# Altium integrated library TI Power Management Linear Regulator Single Channel LDO (0-350mA).IntLib: 1648 symbols (part 22 of 66)
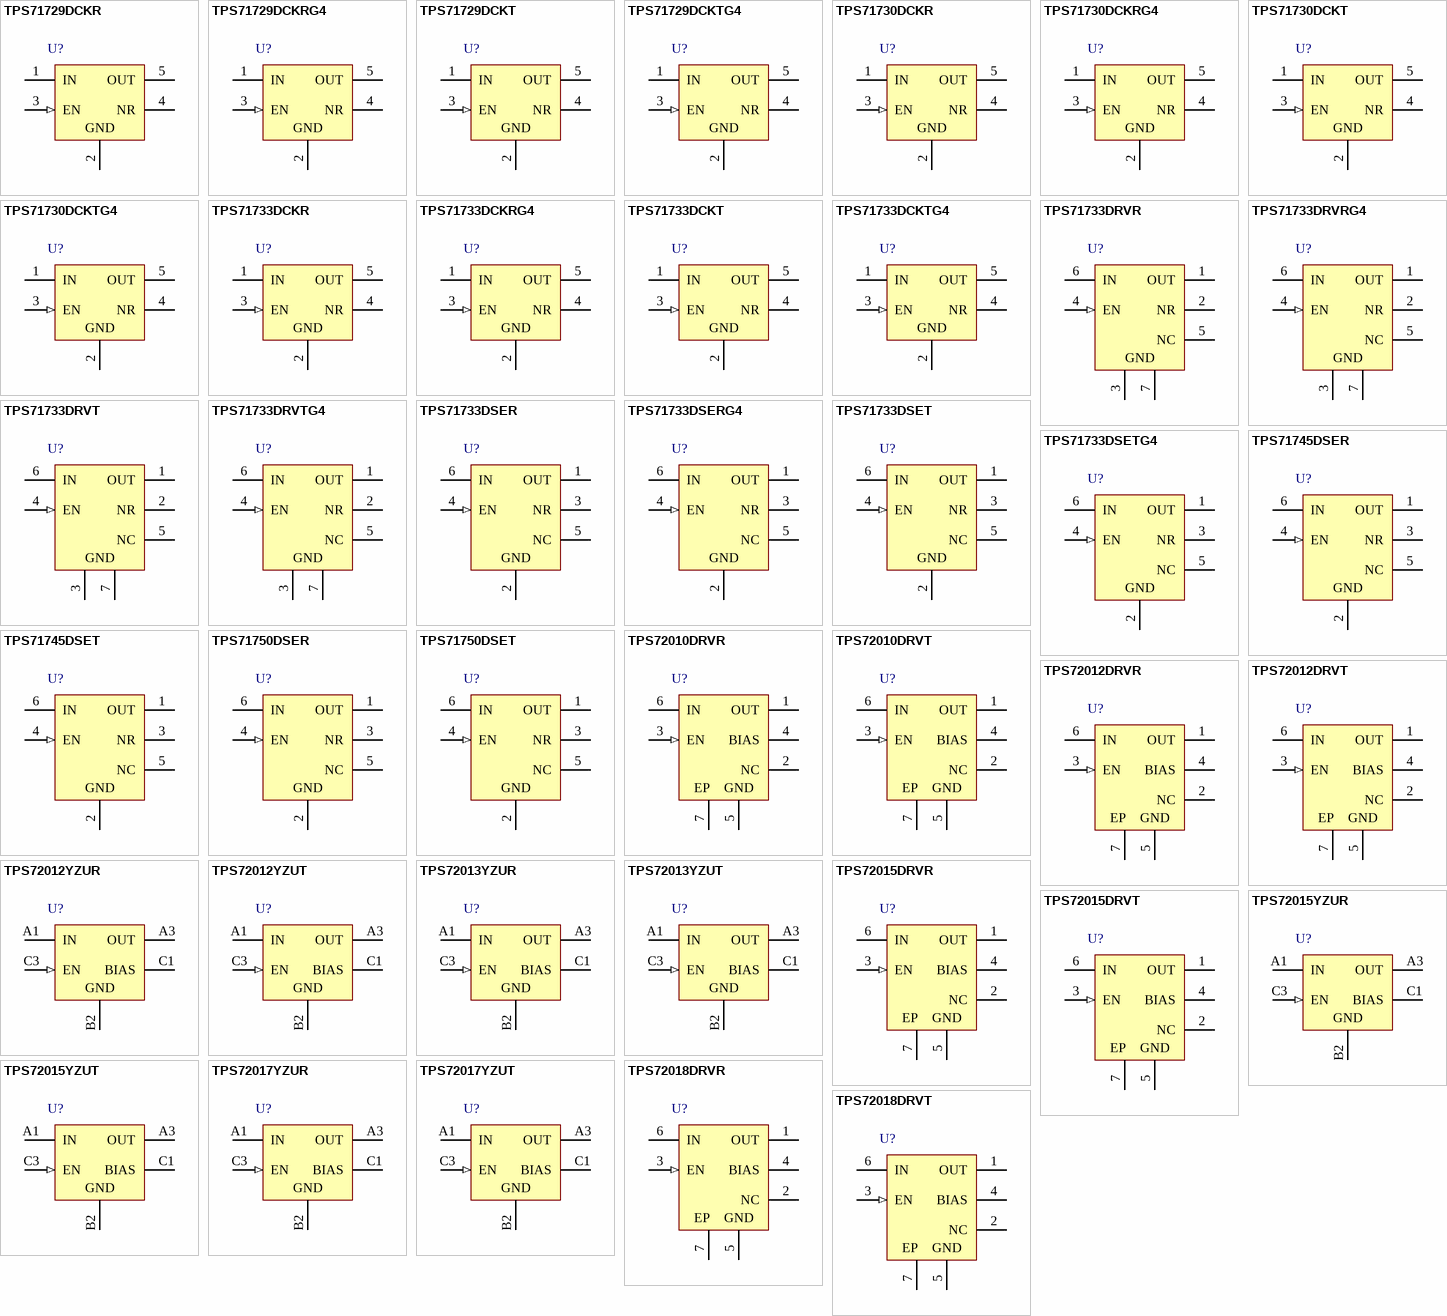
[diagram p63: symbols TPS71729DCKR to TPS72018DRVT]

## TPS72015DRVR
designator U?
Single Output LDO, 350 mA, Fixed 1.5 V Output, 1.1 to 4.5 V Input, with Bias Pin, 6-pin SON (DRV), -40 to 125 degC, Green (RoHS & no Sb/Br); Manufacturer: Texas Instruments; PartNumber: TPS72015DRVR; Accuracy(%): 2; Fixed Output Options(V): 1.5; Iout(Max)(A): 0.3; Iq(Typ)(mA): 0.03; Rating: Catalog; SubFamily: Single Channel LDO; Vdo(Typ)(mV): 110; Vin(Max)(V): 4.5; Vin(Min)(V): 1.1; DatasheetVersion: SBVS100D; PackageVersion: 4206925/E; PackageReference: DRV6-1600X1000TP; PackageDescription: 6-Pin Plastic Small Outline No-Lead, Body 2 x 2 mm, Pitch 0.65 mm; Supplier 1: Digi-Key; Supplier Part Number 1: TPS72015DRVR-ND; Supplier 2: Mouser; Supplier Part Number 2: 595-TPS72015DRVR; Eco-Plan: Green (RoHS & no Sb/Br); Vout Adj(Max)(V): 1.5; Vout Adj(Min)(V): 1.5; Mounting Technology: Surface Mount; ComponentLink1Description: Manufacturer URL; ComponentLink1URL: http://www.ti.com/; ComponentLink2Description: Datasheet; ComponentLink2URL: http://www.ti.com/general/docs/lit/getliterature.tsp?genericPartNumber=TPS72015&fileType=pdf; ComponentLink3Description: Package Specification; ComponentLink3URL: http://www.ti.com/litv/pdf/mpds216d
footprint TI-DRV6-1600X1000TP_V (SON, 6-Leads, Body 2x2mm, Pitch 0.65mm, Thermal Pad 1X1.6mm)
pins: 1 OUT (power) "Output pin. A 2.2uF ceramic capacitor is connected from this pin to ground, for stability and to provide load transients.", 2 NC "No connection.", 3 EN (in) "Enable pin. A logic high signal on this pin turns the device on and regulates the voltage from IN to OUT. A logic low on this pin turns off the device.", 4 BIAS (power) "Bias supply pin. It is recommended that this input be bypassed with a ceramic capacitor to ground for better transient performance.", 5 GND (power) "Ground pin.", 6 IN (power) "Input pin. This pin can be a maximum of 4.5V; VIN must not exceed VBIAS. Bypass this input with a ceramic capacitor to ground.", 7 EP (power) "It is recommended that the SON package thermal pad be connected to ground."

## TPS72015DRVT
designator U?
Single Output LDO, 350 mA, Fixed 1.5 V Output, 1.1 to 4.5 V Input, with Bias Pin, 6-pin SON (DRV), -40 to 125 degC, Green (RoHS & no Sb/Br); Manufacturer: Texas Instruments; PartNumber: TPS72015DRVT; Accuracy(%): 2; Fixed Output Options(V): 1.5; Iout(Max)(A): 0.3; Iq(Typ)(mA): 0.03; Rating: Catalog; SubFamily: Single Channel LDO; Vdo(Typ)(mV): 110; Vin(Max)(V): 4.5; Vin(Min)(V): 1.1; DatasheetVersion: SBVS100D; PackageVersion: 4206925/E; PackageReference: DRV6-1600X1000TP; PackageDescription: 6-Pin Plastic Small Outline No-Lead, Body 2 x 2 mm, Pitch 0.65 mm; Supplier 1: Digi-Key; Supplier Part Number 1: 296-25808-2-ND; Supplier 2: Digi-Key; Supplier Part Number 2: 296-25808-1-ND; Supplier 3: Digi-Key; Supplier Part Number 3: 296-25808-6-ND; Supplier 4: Newark; Supplier Part Number 4: 69R0452; Supplier 5: Mouser; Supplier Part Number 5: 595-TPS72015DRVT; Eco-Plan: Green (RoHS & no Sb/Br); Vout Adj(Max)(V): 1.5; Vout Adj(Min)(V): 1.5; Mounting Technology: Surface Mount; ComponentLink1Description: Manufacturer URL; ComponentLink1URL: http://www.ti.com/; ComponentLink2Description: Datasheet; ComponentLink2URL: http://www.ti.com/general/docs/lit/getliterature.tsp?genericPartNumber=TPS72015&fileType=pdf; ComponentLink3Description: Package Specification; ComponentLink3URL: http://www.ti.com/litv/pdf/mpds216d
footprint TI-DRV6-1600X1000TP_V (SON, 6-Leads, Body 2x2mm, Pitch 0.65mm, Thermal Pad 1X1.6mm)
pins: 1 OUT (power) "Output pin. A 2.2uF ceramic capacitor is connected from this pin to ground, for stability and to provide load transients.", 2 NC "No connection.", 3 EN (in) "Enable pin. A logic high signal on this pin turns the device on and regulates the voltage from IN to OUT. A logic low on this pin turns off the device.", 4 BIAS (power) "Bias supply pin. It is recommended that this input be bypassed with a ceramic capacitor to ground for better transient performance.", 5 GND (power) "Ground pin.", 6 IN (power) "Input pin. This pin can be a maximum of 4.5V; VIN must not exceed VBIAS. Bypass this input with a ceramic capacitor to ground.", 7 EP (power) "It is recommended that the SON package thermal pad be connected to ground."

## TPS72015YZUR
designator U?
Single Output LDO, 350 mA, Fixed 1.5 V Output, 1.1 to 4.5 V Input, with Bias Pin, 5-pin DSBGA (YZU), -40 to 125 degC, Green (RoHS & no Sb/Br); Manufacturer: Texas Instruments; PartNumber: TPS72015YZUR; Accuracy(%): 2; Fixed Output Options(V): 1.5; Iout(Max)(A): 0.3; Iq(Typ)(mA): 0.03; Rating: Catalog; SubFamily: Single Channel LDO; Vdo(Typ)(mV): 110; Vin(Max)(V): 4.5; Vin(Min)(V): 1.1; DatasheetVersion: SBVS100D; PackageVersion: 4205678/D; PackageReference: YZU5; PackageDescription: 5-Pin Silicon Grid Array, Body 1.332 x 0.964 mm, Pitch 0.25 mm; Supplier 1: Digi-Key; Supplier Part Number 1: TPS72015YZUR-ND; Supplier 2: Newark; Supplier Part Number 2: 03P5254; Supplier 3: Mouser; Supplier Part Number 3: 595-TPS72015YZUR; Eco-Plan: Green (RoHS & no Sb/Br); Vout Adj(Max)(V): 1.5; Vout Adj(Min)(V): 1.5; Mounting Technology: Surface Mount; ComponentLink1Description: Manufacturer URL; ComponentLink1URL: http://www.ti.com/; ComponentLink2Description: Datasheet; ComponentLink2URL: http://www.ti.com/general/docs/lit/getliterature.tsp?genericPartNumber=TPS72015&fileType=pdf; ComponentLink3Description: Package Specification; ComponentLink3URL: http://www.ti.com/litv/pdf/mpds018i
footprint TI-YZU5-1332X964DE (BGA, 5-Balls, Body 1.332x0.964mm, Pitch 0.25mm)
pins: A1 IN (power) "Input pin. This pin can be a maximum of 4.5V; VINmust not exceed VBIAS. Bypass this input with a ceramic capacitor to ground.", A3 OUT (power) "Output pin. A 2.2µF ceramic capacitor is connected from this pin to ground, for stability and to provide load transients.", B2 GND (power) "Ground pin.", C1 BIAS (power) "Bias supply pin. It is recommended that this input be bypassed with a ceramic capacitor to ground for better transient performance.", C3 EN (in) "Enable pin. A logic high signal on this pin turns the device on and regulates the voltage from IN to OUT. A logic low on this pin turns off the device."

## TPS72015YZUT
designator U?
Single Output LDO, 350 mA, Fixed 1.5 V Output, 1.1 to 4.5 V Input, with Bias Pin, 5-pin DSBGA (YZU), -40 to 125 degC, Green (RoHS & no Sb/Br); Manufacturer: Texas Instruments; PartNumber: TPS72015YZUT; Accuracy(%): 2; Fixed Output Options(V): 1.5; Iout(Max)(A): 0.3; Iq(Typ)(mA): 0.03; Rating: Catalog; SubFamily: Single Channel LDO; Vdo(Typ)(mV): 110; Vin(Max)(V): 4.5; Vin(Min)(V): 1.1; DatasheetVersion: SBVS100D; PackageVersion: 4205678/D; PackageReference: YZU5; PackageDescription: 5-Pin Silicon Grid Array, Body 1.332 x 0.964 mm, Pitch 0.25 mm; Supplier 1: Digi-Key; Supplier Part Number 1: 296-23575-2-ND; Supplier 2: Digi-Key; Supplier Part Number 2: 296-23575-1-ND; Supplier 3: Digi-Key; Supplier Part Number 3: 296-23575-6-ND; Supplier 4: Newark; Supplier Part Number 4: 14N8525; Supplier 5: Mouser; Supplier Part Number 5: 595-TPS72015YZUT; Eco-Plan: Green (RoHS & no Sb/Br); Vout Adj(Max)(V): 1.5; Vout Adj(Min)(V): 1.5; Mounting Technology: Surface Mount; ComponentLink1Description: Manufacturer URL; ComponentLink1URL: http://www.ti.com/; ComponentLink2Description: Datasheet; ComponentLink2URL: http://www.ti.com/general/docs/lit/getliterature.tsp?genericPartNumber=TPS72015&fileType=pdf; ComponentLink3Description: Package Specification; ComponentLink3URL: http://www.ti.com/litv/pdf/mpds018i
footprint TI-YZU5-1332X964DE (BGA, 5-Balls, Body 1.332x0.964mm, Pitch 0.25mm)
pins: A1 IN (power) "Input pin. This pin can be a maximum of 4.5V; VINmust not exceed VBIAS. Bypass this input with a ceramic capacitor to ground.", A3 OUT (power) "Output pin. A 2.2µF ceramic capacitor is connected from this pin to ground, for stability and to provide load transients.", B2 GND (power) "Ground pin.", C1 BIAS (power) "Bias supply pin. It is recommended that this input be bypassed with a ceramic capacitor to ground for better transient performance.", C3 EN (in) "Enable pin. A logic high signal on this pin turns the device on and regulates the voltage from IN to OUT. A logic low on this pin turns off the device."

## TPS72017YZUR
designator U?
Single Output LDO, 300 mA, Fixed 1.7 V Output, 1.1 to 4.5 V Input, with Bias Pin, 5-pin DSBGA (YZU), -40 to 125 degC, Green (RoHS & no Sb/Br); Manufacturer: Texas Instruments; PartNumber: TPS72017YZUR; Accuracy(%): 2; Fixed Output Options(V): 1.7; Iout(Max)(A): 0.3; Iq(Typ)(mA): 0.03; Rating: Catalog; SubFamily: Single Channel LDO; Vdo(Typ)(mV): 110; Vin(Max)(V): 4.5; Vin(Min)(V): 1.1; DatasheetVersion: SBVS100D; PackageVersion: 4205678/D; PackageReference: YZU5; PackageDescription: 5-Pin Silicon Grid Array, Body 1.332 x 0.964 mm, Pitch 0.25 mm; Supplier 1: Digi-Key; Supplier Part Number 1: 296-23777-2-ND; Supplier 2: Digi-Key; Supplier Part Number 2: 296-23777-1-ND; Supplier 3: Digi-Key; Supplier Part Number 3: 296-23777-6-ND; Supplier 4: Mouser; Supplier Part Number 4: 595-TPS72017YZUR; Eco-Plan: Green (RoHS & no Sb/Br); Vout Adj(Max)(V): 1.7; Vout Adj(Min)(V): 1.7; Mounting Technology: Surface Mount; ComponentLink1Description: Manufacturer URL; ComponentLink1URL: http://www.ti.com/; ComponentLink2Description: Datasheet; ComponentLink2URL: http://www.ti.com/general/docs/lit/getliterature.tsp?genericPartNumber=TPS72017&fileType=pdf; ComponentLink3Description: Package Specification; ComponentLink3URL: http://www.ti.com/litv/pdf/mpds018i
footprint TI-YZU5-1332X964DE (BGA, 5-Balls, Body 1.332x0.964mm, Pitch 0.25mm)
pins: A1 IN (power) "Input pin. This pin can be a maximum of 4.5V; VINmust not exceed VBIAS. Bypass this input with a ceramic capacitor to ground.", A3 OUT (power) "Output pin. A 2.2µF ceramic capacitor is connected from this pin to ground, for stability and to provide load transients.", B2 GND (power) "Ground pin.", C1 BIAS (power) "Bias supply pin. It is recommended that this input be bypassed with a ceramic capacitor to ground for better transient performance.", C3 EN (in) "Enable pin. A logic high signal on this pin turns the device on and regulates the voltage from IN to OUT. A logic low on this pin turns off the device."

## TPS72017YZUT
designator U?
Single Output LDO, 300 mA, Fixed 1.7 V Output, 1.1 to 4.5 V Input, with Bias Pin, 5-pin DSBGA (YZU), -40 to 125 degC, Green (RoHS & no Sb/Br); Manufacturer: Texas Instruments; PartNumber: TPS72017YZUT; Accuracy(%): 2; Fixed Output Options(V): 1.7; Iout(Max)(A): 0.3; Iq(Typ)(mA): 0.03; Rating: Catalog; SubFamily: Single Channel LDO; Vdo(Typ)(mV): 110; Vin(Max)(V): 4.5; Vin(Min)(V): 1.1; DatasheetVersion: SBVS100D; PackageVersion: 4205678/D; PackageReference: YZU5; PackageDescription: 5-Pin Silicon Grid Array, Body 1.332 x 0.964 mm, Pitch 0.25 mm; Supplier 1: Digi-Key; Supplier Part Number 1: TPS72017YZUT-ND; Supplier 2: Mouser; Supplier Part Number 2: 595-TPS72017YZUT; Eco-Plan: Green (RoHS & no Sb/Br); Vout Adj(Max)(V): 1.7; Vout Adj(Min)(V): 1.7; Mounting Technology: Surface Mount; ComponentLink1Description: Manufacturer URL; ComponentLink1URL: http://www.ti.com/; ComponentLink2Description: Datasheet; ComponentLink2URL: http://www.ti.com/general/docs/lit/getliterature.tsp?genericPartNumber=TPS72017&fileType=pdf; ComponentLink3Description: Package Specification; ComponentLink3URL: http://www.ti.com/litv/pdf/mpds018i
footprint TI-YZU5-1332X964DE (BGA, 5-Balls, Body 1.332x0.964mm, Pitch 0.25mm)
pins: A1 IN (power) "Input pin. This pin can be a maximum of 4.5V; VINmust not exceed VBIAS. Bypass this input with a ceramic capacitor to ground.", A3 OUT (power) "Output pin. A 2.2µF ceramic capacitor is connected from this pin to ground, for stability and to provide load transients.", B2 GND (power) "Ground pin.", C1 BIAS (power) "Bias supply pin. It is recommended that this input be bypassed with a ceramic capacitor to ground for better transient performance.", C3 EN (in) "Enable pin. A logic high signal on this pin turns the device on and regulates the voltage from IN to OUT. A logic low on this pin turns off the device."

## TPS72018DRVR
designator U?
Single Output LDO, 300 mA, Fixed 1.8 V Output, 1.1 to 4.5 V Input, with Bias Pin, 6-pin SON (DRV), -40 to 125 degC, Green (RoHS & no Sb/Br); Manufacturer: Texas Instruments; PartNumber: TPS72018DRVR; Accuracy(%): 2; Fixed Output Options(V): 1.8; Iout(Max)(A): 0.3; Iq(Typ)(mA): 0.03; Rating: Catalog; SubFamily: Single Channel LDO; Vdo(Typ)(mV): 110; Vin(Max)(V): 4.5; Vin(Min)(V): 1.1; DatasheetVersion: SBVS100D; PackageVersion: 4206925/E; PackageReference: DRV6-1600X1000TP; PackageDescription: 6-Pin Plastic Small Outline No-Lead, Body 2 x 2 mm, Pitch 0.65 mm; Supplier 1: Digi-Key; Supplier Part Number 1: TPS72018DRVR-ND; Supplier 2: Mouser; Supplier Part Number 2: 595-TPS72018DRVR; Eco-Plan: Green (RoHS & no Sb/Br); Vout Adj(Max)(V): 1.8; Vout Adj(Min)(V): 1.8; Mounting Technology: Surface Mount; ComponentLink1Description: Manufacturer URL; ComponentLink1URL: http://www.ti.com/; ComponentLink2Description: Datasheet; ComponentLink2URL: http://www.ti.com/general/docs/lit/getliterature.tsp?genericPartNumber=TPS72018&fileType=pdf; ComponentLink3Description: Package Specification; ComponentLink3URL: http://www.ti.com/litv/pdf/mpds216d
footprint TI-DRV6-1600X1000TP_V (SON, 6-Leads, Body 2x2mm, Pitch 0.65mm, Thermal Pad 1X1.6mm)
pins: 1 OUT (power) "Output pin. A 2.2uF ceramic capacitor is connected from this pin to ground, for stability and to provide load transients.", 2 NC "No connection.", 3 EN (in) "Enable pin. A logic high signal on this pin turns the device on and regulates the voltage from IN to OUT. A logic low on this pin turns off the device.", 4 BIAS (power) "Bias supply pin. It is recommended that this input be bypassed with a ceramic capacitor to ground for better transient performance.", 5 GND (power) "Ground pin.", 6 IN (power) "Input pin. This pin can be a maximum of 4.5V; VIN must not exceed VBIAS. Bypass this input with a ceramic capacitor to ground.", 7 EP (power) "It is recommended that the SON package thermal pad be connected to ground."

## TPS72018DRVT
designator U?
Single Output LDO, 300 mA, Fixed 1.8 V Output, 1.1 to 4.5 V Input, with Bias Pin, 6-pin SON (DRV), -40 to 125 degC, Green (RoHS & no Sb/Br); Manufacturer: Texas Instruments; PartNumber: TPS72018DRVT; Accuracy(%): 2; Fixed Output Options(V): 1.8; Iout(Max)(A): 0.3; Iq(Typ)(mA): 0.03; Rating: Catalog; SubFamily: Single Channel LDO; Vdo(Typ)(mV): 110; Vin(Max)(V): 4.5; Vin(Min)(V): 1.1; DatasheetVersion: SBVS100D; PackageVersion: 4206925/E; PackageReference: DRV6-1600X1000TP; PackageDescription: 6-Pin Plastic Small Outline No-Lead, Body 2 x 2 mm, Pitch 0.65 mm; Supplier 1: Digi-Key; Supplier Part Number 1: 296-25809-2-ND; Supplier 2: Digi-Key; Supplier Part Number 2: 296-25809-1-ND; Supplier 3: Digi-Key; Supplier Part Number 3: 296-25809-6-ND; Supplier 4: Newark; Supplier Part Number 4: 69R0454; Supplier 5: Mouser; Supplier Part Number 5: 595-TPS72018DRVT; Eco-Plan: Green (RoHS & no Sb/Br); Vout Adj(Max)(V): 1.8; Vout Adj(Min)(V): 1.8; Mounting Technology: Surface Mount; ComponentLink1Description: Manufacturer URL; ComponentLink1URL: http://www.ti.com/; ComponentLink2Description: Datasheet; ComponentLink2URL: http://www.ti.com/general/docs/lit/getliterature.tsp?genericPartNumber=TPS72018&fileType=pdf; ComponentLink3Description: Package Specification; ComponentLink3URL: http://www.ti.com/litv/pdf/mpds216d
footprint TI-DRV6-1600X1000TP_V (SON, 6-Leads, Body 2x2mm, Pitch 0.65mm, Thermal Pad 1X1.6mm)
pins: 1 OUT (power) "Output pin. A 2.2uF ceramic capacitor is connected from this pin to ground, for stability and to provide load transients.", 2 NC "No connection.", 3 EN (in) "Enable pin. A logic high signal on this pin turns the device on and regulates the voltage from IN to OUT. A logic low on this pin turns off the device.", 4 BIAS (power) "Bias supply pin. It is recommended that this input be bypassed with a ceramic capacitor to ground for better transient performance.", 5 GND (power) "Ground pin.", 6 IN (power) "Input pin. This pin can be a maximum of 4.5V; VIN must not exceed VBIAS. Bypass this input with a ceramic capacitor to ground.", 7 EP (power) "It is recommended that the SON package thermal pad be connected to ground."

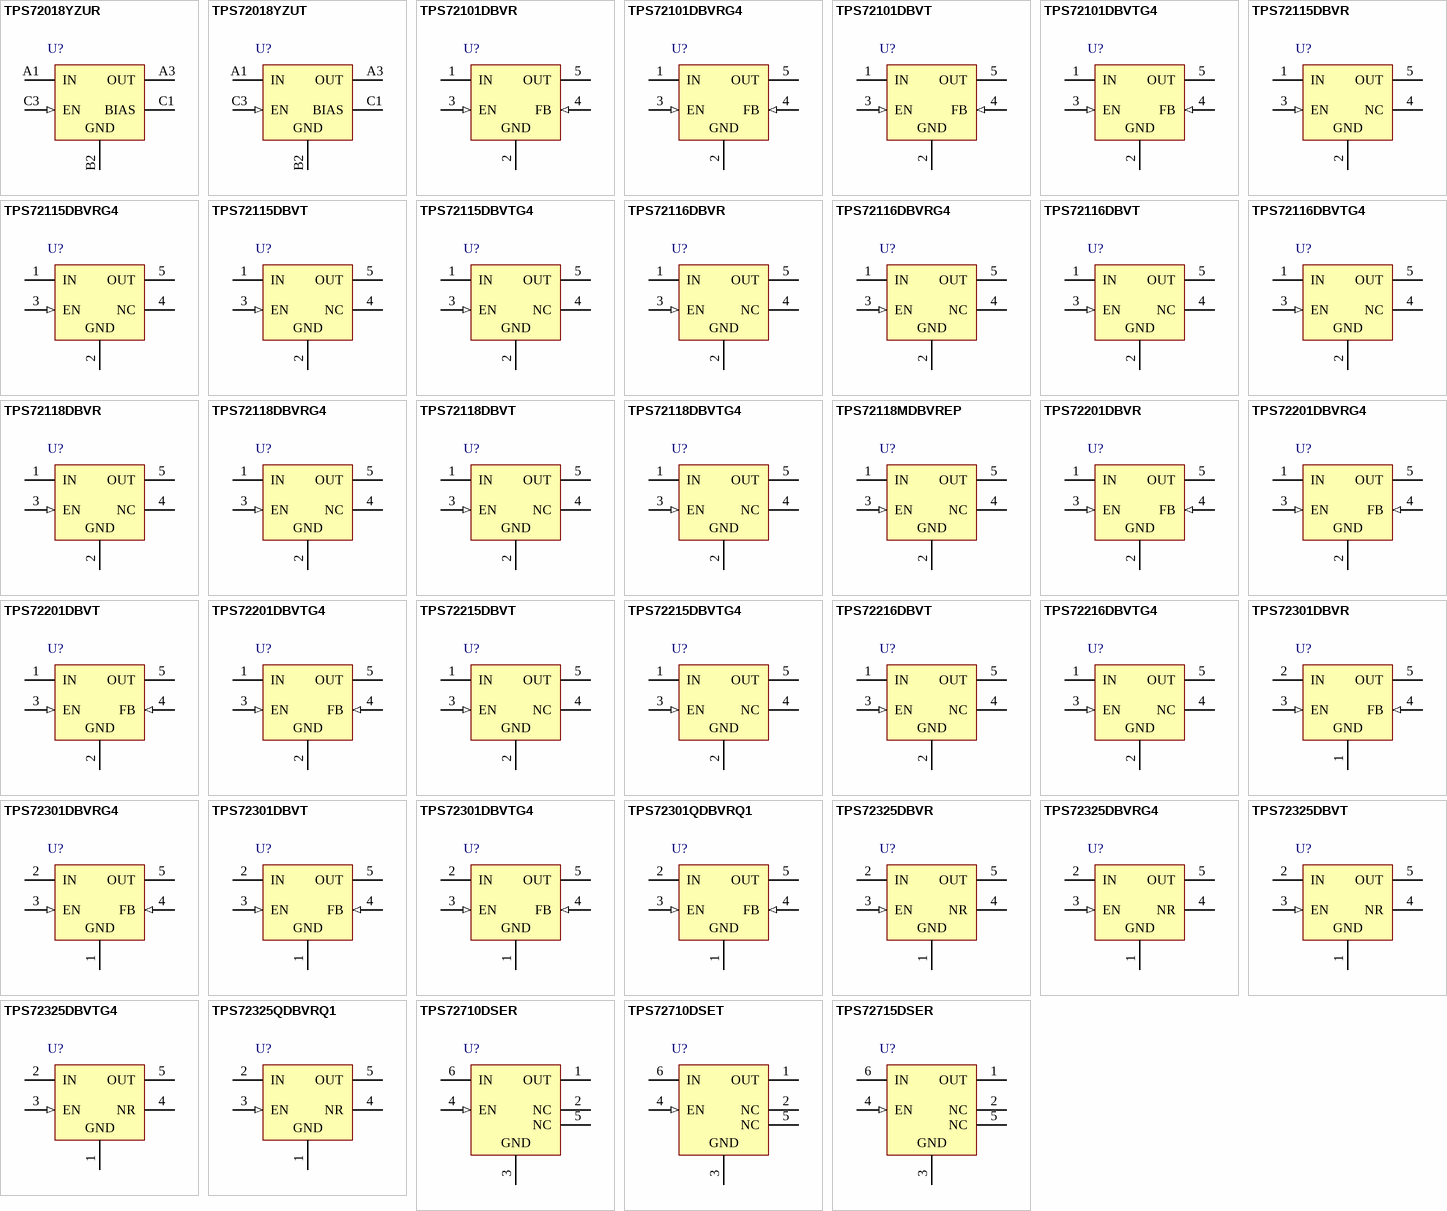
[diagram p15: symbols TPS72018YZUR to TPS72715DSER]

## TPS72018YZUR
designator U?
Single Output LDO, 300 mA, Fixed 1.8 V Output, 1.1 to 4.5 V Input, with Bias Pin, 5-pin DSBGA (YZU), -40 to 125 degC, Green (RoHS & no Sb/Br); Manufacturer: Texas Instruments; PartNumber: TPS72018YZUR; Accuracy(%): 2; Fixed Output Options(V): 1.8; Iout(Max)(A): 0.3; Iq(Typ)(mA): 0.03; Rating: Catalog; SubFamily: Single Channel LDO; Vdo(Typ)(mV): 110; Vin(Max)(V): 4.5; Vin(Min)(V): 1.1; DatasheetVersion: SBVS100D; PackageVersion: 4205678/D; PackageReference: YZU5; PackageDescription: 5-Pin Silicon Grid Array, Body 1.332 x 0.964 mm, Pitch 0.25 mm; Supplier 1: Digi-Key; Supplier Part Number 1: 296-23778-2-ND; Supplier 2: Digi-Key; Supplier Part Number 2: 296-23778-1-ND; Supplier 3: Digi-Key; Supplier Part Number 3: 296-23778-6-ND; Supplier 4: Newark; Supplier Part Number 4: 12P8053; Supplier 5: Mouser; Supplier Part Number 5: 595-TPS72018YZUR; Eco-Plan: Green (RoHS & no Sb/Br); Vout Adj(Max)(V): 1.8; Vout Adj(Min)(V): 1.8; Mounting Technology: Surface Mount; ComponentLink1Description: Manufacturer URL; ComponentLink1URL: http://www.ti.com/; ComponentLink2Description: Datasheet; ComponentLink2URL: http://www.ti.com/general/docs/lit/getliterature.tsp?genericPartNumber=TPS72018&fileType=pdf; ComponentLink3Description: Package Specification; ComponentLink3URL: http://www.ti.com/litv/pdf/mpds018i
footprint TI-YZU5-1332X964DE (BGA, 5-Balls, Body 1.332x0.964mm, Pitch 0.25mm)
pins: A1 IN (power) "Input pin. This pin can be a maximum of 4.5V; VINmust not exceed VBIAS. Bypass this input with a ceramic capacitor to ground.", A3 OUT (power) "Output pin. A 2.2µF ceramic capacitor is connected from this pin to ground, for stability and to provide load transients.", B2 GND (power) "Ground pin.", C1 BIAS (power) "Bias supply pin. It is recommended that this input be bypassed with a ceramic capacitor to ground for better transient performance.", C3 EN (in) "Enable pin. A logic high signal on this pin turns the device on and regulates the voltage from IN to OUT. A logic low on this pin turns off the device."

## TPS72018YZUT
designator U?
Single Output LDO, 300 mA, Fixed 1.8 V Output, 1.1 to 4.5 V Input, with Bias Pin, 5-pin DSBGA (YZU), -40 to 125 degC, Green (RoHS & no Sb/Br); Manufacturer: Texas Instruments; PartNumber: TPS72018YZUT; Accuracy(%): 2; Fixed Output Options(V): 1.8; Iout(Max)(A): 0.3; Iq(Typ)(mA): 0.03; Rating: Catalog; SubFamily: Single Channel LDO; Vdo(Typ)(mV): 110; Vin(Max)(V): 4.5; Vin(Min)(V): 1.1; DatasheetVersion: SBVS100D; PackageVersion: 4205678/D; PackageReference: YZU5; PackageDescription: 5-Pin Silicon Grid Array, Body 1.332 x 0.964 mm, Pitch 0.25 mm; Supplier 1: Digi-Key; Supplier Part Number 1: TPS72018YZUT-ND; Supplier 2: Mouser; Supplier Part Number 2: 595-TPS72018YZUT; Eco-Plan: Green (RoHS & no Sb/Br); Vout Adj(Max)(V): 1.8; Vout Adj(Min)(V): 1.8; Mounting Technology: Surface Mount; ComponentLink1Description: Manufacturer URL; ComponentLink1URL: http://www.ti.com/; ComponentLink2Description: Datasheet; ComponentLink2URL: http://www.ti.com/general/docs/lit/getliterature.tsp?genericPartNumber=TPS72018&fileType=pdf; ComponentLink3Description: Package Specification; ComponentLink3URL: http://www.ti.com/litv/pdf/mpds018i
footprint TI-YZU5-1332X964DE (BGA, 5-Balls, Body 1.332x0.964mm, Pitch 0.25mm)
pins: A1 IN (power) "Input pin. This pin can be a maximum of 4.5V; VINmust not exceed VBIAS. Bypass this input with a ceramic capacitor to ground.", A3 OUT (power) "Output pin. A 2.2µF ceramic capacitor is connected from this pin to ground, for stability and to provide load transients.", B2 GND (power) "Ground pin.", C1 BIAS (power) "Bias supply pin. It is recommended that this input be bypassed with a ceramic capacitor to ground for better transient performance.", C3 EN (in) "Enable pin. A logic high signal on this pin turns the device on and regulates the voltage from IN to OUT. A logic low on this pin turns off the device."

## TPS72101DBVR
designator U?
Single Output Low Input Voltage Requirement LDO, 100 mA, Adjustable 1.22 to 2.5 V Output, 1.8 to 5.5 V Input, with Low IQ, 5-pin SOT-23 (DBV), -40 to 125 degC, Green (RoHS & no Sb/Br); Manufacturer: Texas Instruments; PartNumber: TPS72101DBVR; Accuracy(%): 3; Iout(Max)(A): 0.1; Iq(Typ)(mA): 0.57; SubFamily: Single Channel LDO; Vdo(Typ)(mV): 150; Vin(Max)(V): 5.5; Vin(Min)(V): 1.8; Vout Adj(Max)(V): 2.5; Vout Adj(Min)(V): 1.22; DatasheetVersion: SLVS352C; PackageVersion: 4073253-4/K; PackageReference: DBV5; PackageDescription: 5-Pin Plastic Small Outline, Body 1.60 × 2.90 mm, Pitch 0.95 mm; Supplier 1: Digi-Key; Supplier Part Number 1: TPS72101DBVR-ND; Supplier 2: Newark; Supplier Part Number 2: 77C0818; Supplier 3: Mouser; Supplier Part Number 3: 595-TPS72101DBVR; Eco-Plan: Green (RoHS & no Sb/Br); Mounting Technology: Surface Mount; Code_JEDEC: MO-178; ComponentLink1Description: Manufacturer URL; ComponentLink1URL: http://www.ti.com/; ComponentLink2Description: Datasheet; ComponentLink2URL: http://www.ti.com/general/docs/lit/getliterature.tsp?genericPartNumber=TPS72101&fileType=pdf; ComponentLink3Description: Package Specification; ComponentLink3URL: http://www.ti.com/litv/pdf/mpds018i
footprint TI-DBV5_N (SOT23, 5-Leads, Body 2.9x1.6mm, Pitch 0.95mm, IPC Medium Density)
footprint TI-DBV5_L (SOT23, 5-Leads, Body 2.9x1.6mm, Pitch 0.95mm, IPC High Density)
footprint TI-DBV5_M (SOT23, 5-Leads, Body 2.9x1.6mm, Pitch 0.95mm, IPC Low Density)
pins: 1 IN (power) "Input pin. A small capacitor is needed from this pin to ground to assure stability. Typical input capacitor = 1.0uF. Both input and output capacitor grounds should be tied back to the IC ground with no significant impedance (See Datasheet)", 2 GND (power) "Ground pin.", 3 EN (in) "Driving the enable pin (EN) over 1.2V turns on the regulator. Driving this pin below 0.4V puts the regulator into shutdown mode, reducing operating current to 18nA typical.", 4 FB (in) "Feedback pin (FB) for adjustable versions", 5 OUT (power) "Regulated output voltage pin. A small 1-uF ceramic capacitor is needed from this pin to ground to assure stability.See Input and Output Capacitor Requirements in the Application Information section for more details."

## TPS72101DBVRG4
designator U?
Single Output Low Input Voltage Requirement LDO, 100 mA, Adjustable 1.22 to 2.5 V Output, 1.8 to 5.5 V Input, with Low IQ, 5-pin SOT-23 (DBV), -40 to 125 degC, Green (RoHS & no Sb/Br); Manufacturer: Texas Instruments; PartNumber: TPS72101DBVRG4; Accuracy(%): 3; Iout(Max)(A): 0.1; Iq(Typ)(mA): 0.57; SubFamily: Single Channel LDO; Vdo(Typ)(mV): 150; Vin(Max)(V): 5.5; Vin(Min)(V): 1.8; Vout Adj(Max)(V): 2.5; Vout Adj(Min)(V): 1.22; DatasheetVersion: SLVS352C; PackageVersion: 4073253-4/K; PackageReference: DBV5; PackageDescription: 5-Pin Plastic Small Outline, Body 1.60 × 2.90 mm, Pitch 0.95 mm; Supplier 1: Digi-Key; Supplier Part Number 1: TPS72101DBVRG4-ND; Supplier 2: Mouser; Supplier Part Number 2: 595-TPS72101DBVRG4; Eco-Plan: Green (RoHS & no Sb/Br); Mounting Technology: Surface Mount; Code_JEDEC: MO-178; ComponentLink1Description: Manufacturer URL; ComponentLink1URL: http://www.ti.com/; ComponentLink2Description: Datasheet; ComponentLink2URL: http://www.ti.com/general/docs/lit/getliterature.tsp?genericPartNumber=TPS72101&fileType=pdf; ComponentLink3Description: Package Specification; ComponentLink3URL: http://www.ti.com/litv/pdf/mpds018i
footprint TI-DBV5_N (SOT23, 5-Leads, Body 2.9x1.6mm, Pitch 0.95mm, IPC Medium Density)
footprint TI-DBV5_L (SOT23, 5-Leads, Body 2.9x1.6mm, Pitch 0.95mm, IPC High Density)
footprint TI-DBV5_M (SOT23, 5-Leads, Body 2.9x1.6mm, Pitch 0.95mm, IPC Low Density)
pins: 1 IN (power) "Input pin. A small capacitor is needed from this pin to ground to assure stability. Typical input capacitor = 1.0uF. Both input and output capacitor grounds should be tied back to the IC ground with no significant impedance (See Datasheet)", 2 GND (power) "Ground pin.", 3 EN (in) "Driving the enable pin (EN) over 1.2V turns on the regulator. Driving this pin below 0.4V puts the regulator into shutdown mode, reducing operating current to 18nA typical.", 4 FB (in) "Feedback pin (FB) for adjustable versions", 5 OUT (power) "Regulated output voltage pin. A small 1-uF ceramic capacitor is needed from this pin to ground to assure stability.See Input and Output Capacitor Requirements in the Application Information section for more details."

## TPS72101DBVT
designator U?
Single Output Low Input Voltage Requirement LDO, 100 mA, Adjustable 1.22 to 2.5 V Output, 1.8 to 5.5 V Input, with Low IQ, 5-pin SOT-23 (DBV), -40 to 125 degC, Green (RoHS & no Sb/Br); Manufacturer: Texas Instruments; PartNumber: TPS72101DBVT; Accuracy(%): 3; Iout(Max)(A): 0.1; Iq(Typ)(mA): 0.57; SubFamily: Single Channel LDO; Vdo(Typ)(mV): 150; Vin(Max)(V): 5.5; Vin(Min)(V): 1.8; Vout Adj(Max)(V): 2.5; Vout Adj(Min)(V): 1.22; DatasheetVersion: SLVS352C; PackageVersion: 4073253-4/K; PackageReference: DBV5; PackageDescription: 5-Pin Plastic Small Outline, Body 1.60 × 2.90 mm, Pitch 0.95 mm; Supplier 1: Digi-Key; Supplier Part Number 1: 296-13004-2-ND; Supplier 2: Digi-Key; Supplier Part Number 2: 296-13004-1-ND; Supplier 3: Digi-Key; Supplier Part Number 3: 296-13004-6-ND; Supplier 4: Newark; Supplier Part Number 4: 77C0819; Supplier 5: Mouser; Supplier Part Number 5: 595-TPS72101DBVT; Eco-Plan: Green (RoHS & no Sb/Br); Mounting Technology: Surface Mount; Code_JEDEC: MO-178; ComponentLink1Description: Manufacturer URL; ComponentLink1URL: http://www.ti.com/; ComponentLink2Description: Datasheet; ComponentLink2URL: http://www.ti.com/general/docs/lit/getliterature.tsp?genericPartNumber=TPS72101&fileType=pdf; ComponentLink3Description: Package Specification; ComponentLink3URL: http://www.ti.com/litv/pdf/mpds018i
footprint TI-DBV5_N (SOT23, 5-Leads, Body 2.9x1.6mm, Pitch 0.95mm, IPC Medium Density)
footprint TI-DBV5_L (SOT23, 5-Leads, Body 2.9x1.6mm, Pitch 0.95mm, IPC High Density)
footprint TI-DBV5_M (SOT23, 5-Leads, Body 2.9x1.6mm, Pitch 0.95mm, IPC Low Density)
pins: 1 IN (power) "Input pin. A small capacitor is needed from this pin to ground to assure stability. Typical input capacitor = 1.0uF. Both input and output capacitor grounds should be tied back to the IC ground with no significant impedance (See Datasheet)", 2 GND (power) "Ground pin.", 3 EN (in) "Driving the enable pin (EN) over 1.2V turns on the regulator. Driving this pin below 0.4V puts the regulator into shutdown mode, reducing operating current to 18nA typical.", 4 FB (in) "Feedback pin (FB) for adjustable versions", 5 OUT (power) "Regulated output voltage pin. A small 1-uF ceramic capacitor is needed from this pin to ground to assure stability.See Input and Output Capacitor Requirements in the Application Information section for more details."

## TPS72101DBVTG4
designator U?
Single Output Low Input Voltage Requirement LDO, 100 mA, Adjustable 1.22 to 2.5 V Output, 1.8 to 5.5 V Input, with Low IQ, 5-pin SOT-23 (DBV), -40 to 125 degC, Green (RoHS & no Sb/Br); Manufacturer: Texas Instruments; PartNumber: TPS72101DBVTG4; Accuracy(%): 3; Iout(Max)(A): 0.1; Iq(Typ)(mA): 0.57; SubFamily: Single Channel LDO; Vdo(Typ)(mV): 150; Vin(Max)(V): 5.5; Vin(Min)(V): 1.8; Vout Adj(Max)(V): 2.5; Vout Adj(Min)(V): 1.22; DatasheetVersion: SLVS352C; PackageVersion: 4073253-4/K; PackageReference: DBV5; PackageDescription: 5-Pin Plastic Small Outline, Body 1.60 × 2.90 mm, Pitch 0.95 mm; Supplier 1: Digi-Key; Supplier Part Number 1: TPS72101DBVTG4-ND; Supplier 2: Mouser; Supplier Part Number 2: 595-TPS72101DBVTG4; Eco-Plan: Green (RoHS & no Sb/Br); Mounting Technology: Surface Mount; Code_JEDEC: MO-178; ComponentLink1Description: Manufacturer URL; ComponentLink1URL: http://www.ti.com/; ComponentLink2Description: Datasheet; ComponentLink2URL: http://www.ti.com/general/docs/lit/getliterature.tsp?genericPartNumber=TPS72101&fileType=pdf; ComponentLink3Description: Package Specification; ComponentLink3URL: http://www.ti.com/litv/pdf/mpds018i
footprint TI-DBV5_N (SOT23, 5-Leads, Body 2.9x1.6mm, Pitch 0.95mm, IPC Medium Density)
footprint TI-DBV5_L (SOT23, 5-Leads, Body 2.9x1.6mm, Pitch 0.95mm, IPC High Density)
footprint TI-DBV5_M (SOT23, 5-Leads, Body 2.9x1.6mm, Pitch 0.95mm, IPC Low Density)
pins: 1 IN (power) "Input pin. A small capacitor is needed from this pin to ground to assure stability. Typical input capacitor = 1.0uF. Both input and output capacitor grounds should be tied back to the IC ground with no significant impedance (See Datasheet)", 2 GND (power) "Ground pin.", 3 EN (in) "Driving the enable pin (EN) over 1.2V turns on the regulator. Driving this pin below 0.4V puts the regulator into shutdown mode, reducing operating current to 18nA typical.", 4 FB (in) "Feedback pin (FB) for adjustable versions", 5 OUT (power) "Regulated output voltage pin. A small 1-uF ceramic capacitor is needed from this pin to ground to assure stability.See Input and Output Capacitor Requirements in the Application Information section for more details."

## TPS72115DBVR
designator U?
Single Output Low Input Voltage Requirement LDO, 150 mA, Fixed 1.5 V Output, 1.8 to 5.5 V Input, with Low IQ, 5-pin SOT-23 (DBV), -40 to 125 degC, Green (RoHS & no Sb/Br); Manufacturer: Texas Instruments; PartNumber: TPS72115DBVR; Accuracy(%): 3; Fixed Output Options(V): 1.5; Iout(Max)(A): 0.1; Iq(Typ)(mA): 0.57; SubFamily: Single Channel LDO; Vdo(Typ)(mV): 150; Vin(Max)(V): 5.5; Vin(Min)(V): 1.8; DatasheetVersion: SLVS352C; PackageVersion: 4073253-4/K; PackageReference: DBV5; PackageDescription: 5-Pin Plastic Small Outline, Body 1.60 × 2.90 mm, Pitch 0.95 mm; Supplier 1: Digi-Key; Supplier Part Number 1: TPS72115DBVR-ND; Supplier 2: Newark; Supplier Part Number 2: 77C0820; Supplier 3: Mouser; Supplier Part Number 3: 595-TPS72115DBVR; Eco-Plan: Green (RoHS & no Sb/Br); Vout Adj(Max)(V): 1.5; Vout Adj(Min)(V): 1.5; Mounting Technology: Surface Mount; Code_JEDEC: MO-178; ComponentLink1Description: Manufacturer URL; ComponentLink1URL: http://www.ti.com/; ComponentLink2Description: Datasheet; ComponentLink2URL: http://www.ti.com/general/docs/lit/getliterature.tsp?genericPartNumber=TPS72115&fileType=pdf; ComponentLink3Description: Package Specification; ComponentLink3URL: http://www.ti.com/litv/pdf/mpds018i
footprint TI-DBV5_N (SOT23, 5-Leads, Body 2.9x1.6mm, Pitch 0.95mm, IPC Medium Density)
footprint TI-DBV5_L (SOT23, 5-Leads, Body 2.9x1.6mm, Pitch 0.95mm, IPC High Density)
footprint TI-DBV5_M (SOT23, 5-Leads, Body 2.9x1.6mm, Pitch 0.95mm, IPC Low Density)
pins: 1 IN (power) "Input supply voltage", 2 GND (power) "Ground", 3 EN (in) "Enable input", 4 NC "No connected", 5 OUT (power) "Regulated output voltage"

## TPS72115DBVRG4
designator U?
Single Output Low Input Voltage Requirement LDO, 150 mA, Fixed 1.5 V Output, 1.8 to 5.5 V Input, with Low IQ, 5-pin SOT-23 (DBV), -40 to 125 degC, Green (RoHS & no Sb/Br); Manufacturer: Texas Instruments; PartNumber: TPS72115DBVRG4; Accuracy(%): 3; Fixed Output Options(V): 1.5; Iout(Max)(A): 0.1; Iq(Typ)(mA): 0.57; SubFamily: Single Channel LDO; Vdo(Typ)(mV): 150; Vin(Max)(V): 5.5; Vin(Min)(V): 1.8; DatasheetVersion: SLVS352C; PackageVersion: 4073253-4/K; PackageReference: DBV5; PackageDescription: 5-Pin Plastic Small Outline, Body 1.60 × 2.90 mm, Pitch 0.95 mm; Supplier 1: Digi-Key; Supplier Part Number 1: TPS72115DBVRG4-ND; Supplier 2: Mouser; Supplier Part Number 2: 595-TPS72115DBVRG4; Eco-Plan: Green (RoHS & no Sb/Br); Vout Adj(Max)(V): 1.5; Vout Adj(Min)(V): 1.5; Mounting Technology: Surface Mount; Code_JEDEC: MO-178; ComponentLink1Description: Manufacturer URL; ComponentLink1URL: http://www.ti.com/; ComponentLink2Description: Datasheet; ComponentLink2URL: http://www.ti.com/general/docs/lit/getliterature.tsp?genericPartNumber=TPS72115&fileType=pdf; ComponentLink3Description: Package Specification; ComponentLink3URL: http://www.ti.com/litv/pdf/mpds018i
footprint TI-DBV5_N (SOT23, 5-Leads, Body 2.9x1.6mm, Pitch 0.95mm, IPC Medium Density)
footprint TI-DBV5_L (SOT23, 5-Leads, Body 2.9x1.6mm, Pitch 0.95mm, IPC High Density)
footprint TI-DBV5_M (SOT23, 5-Leads, Body 2.9x1.6mm, Pitch 0.95mm, IPC Low Density)
pins: 1 IN (power) "Input supply voltage", 2 GND (power) "Ground", 3 EN (in) "Enable input", 4 NC "No connected", 5 OUT (power) "Regulated output voltage"

## TPS72115DBVT
designator U?
Single Output Low Input Voltage Requirement LDO, 150 mA, Fixed 1.5 V Output, 1.8 to 5.5 V Input, with Low IQ, 5-pin SOT-23 (DBV), -40 to 125 degC, Green (RoHS & no Sb/Br); Manufacturer: Texas Instruments; PartNumber: TPS72115DBVT; Accuracy(%): 3; Fixed Output Options(V): 1.5; Iout(Max)(A): 0.1; Iq(Typ)(mA): 0.57; SubFamily: Single Channel LDO; Vdo(Typ)(mV): 150; Vin(Max)(V): 5.5; Vin(Min)(V): 1.8; DatasheetVersion: SLVS352C; PackageVersion: 4073253-4/K; PackageReference: DBV5; PackageDescription: 5-Pin Plastic Small Outline, Body 1.60 × 2.90 mm, Pitch 0.95 mm; Supplier 1: Digi-Key; Supplier Part Number 1: 296-12518-2-ND; Supplier 2: Digi-Key; Supplier Part Number 2: 296-12518-1-ND; Supplier 3: Digi-Key; Supplier Part Number 3: 296-12518-6-ND; Supplier 4: Farnell; Supplier Part Number 4: 1510157; Supplier 5: Newark; Supplier Part Number 5: 77C0821; Supplier 6: Mouser; Supplier Part Number 6: 595-TPS72115DBVT; Eco-Plan: Green (RoHS & no Sb/Br); Vout Adj(Max)(V): 1.5; Vout Adj(Min)(V): 1.5; Mounting Technology: Surface Mount; Code_JEDEC: MO-178; ComponentLink1Description: Manufacturer URL; ComponentLink1URL: http://www.ti.com/; ComponentLink2Description: Datasheet; ComponentLink2URL: http://www.ti.com/general/docs/lit/getliterature.tsp?genericPartNumber=TPS72115&fileType=pdf; ComponentLink3Description: Package Specification; ComponentLink3URL: http://www.ti.com/litv/pdf/mpds018i
footprint TI-DBV5_N (SOT23, 5-Leads, Body 2.9x1.6mm, Pitch 0.95mm, IPC Medium Density)
footprint TI-DBV5_L (SOT23, 5-Leads, Body 2.9x1.6mm, Pitch 0.95mm, IPC High Density)
footprint TI-DBV5_M (SOT23, 5-Leads, Body 2.9x1.6mm, Pitch 0.95mm, IPC Low Density)
pins: 1 IN (power) "Input supply voltage", 2 GND (power) "Ground", 3 EN (in) "Enable input", 4 NC "No connected", 5 OUT (power) "Regulated output voltage"

## TPS72115DBVTG4
designator U?
Single Output Low Input Voltage Requirement LDO, 150 mA, Fixed 1.5 V Output, 1.8 to 5.5 V Input, with Low IQ, 5-pin SOT-23 (DBV), -40 to 125 degC, Green (RoHS & no Sb/Br); Manufacturer: Texas Instruments; PartNumber: TPS72115DBVTG4; Accuracy(%): 3; Fixed Output Options(V): 1.5; Iout(Max)(A): 0.1; Iq(Typ)(mA): 0.57; SubFamily: Single Channel LDO; Vdo(Typ)(mV): 150; Vin(Max)(V): 5.5; Vin(Min)(V): 1.8; DatasheetVersion: SLVS352C; PackageVersion: 4073253-4/K; PackageReference: DBV5; PackageDescription: 5-Pin Plastic Small Outline, Body 1.60 × 2.90 mm, Pitch 0.95 mm; Supplier 1: Digi-Key; Supplier Part Number 1: TPS72115DBVTG4-ND; Supplier 2: Newark; Supplier Part Number 2: 54K1779; Supplier 3: Mouser; Supplier Part Number 3: 595-TPS72115DBVTG4; Eco-Plan: Green (RoHS & no Sb/Br); Vout Adj(Max)(V): 1.5; Vout Adj(Min)(V): 1.5; Mounting Technology: Surface Mount; Code_JEDEC: MO-178; ComponentLink1Description: Manufacturer URL; ComponentLink1URL: http://www.ti.com/; ComponentLink2Description: Datasheet; ComponentLink2URL: http://www.ti.com/general/docs/lit/getliterature.tsp?genericPartNumber=TPS72115&fileType=pdf; ComponentLink3Description: Package Specification; ComponentLink3URL: http://www.ti.com/litv/pdf/mpds018i
footprint TI-DBV5_N (SOT23, 5-Leads, Body 2.9x1.6mm, Pitch 0.95mm, IPC Medium Density)
footprint TI-DBV5_L (SOT23, 5-Leads, Body 2.9x1.6mm, Pitch 0.95mm, IPC High Density)
footprint TI-DBV5_M (SOT23, 5-Leads, Body 2.9x1.6mm, Pitch 0.95mm, IPC Low Density)
pins: 1 IN (power) "Input supply voltage", 2 GND (power) "Ground", 3 EN (in) "Enable input", 4 NC "No connected", 5 OUT (power) "Regulated output voltage"

## TPS72116DBVR
designator U?
Single Output Low Input Voltage Requirement LDO, 150 mA, Fixed 1.6 V Output, 1.8 to 5.5 V Input, with Low IQ, 5-pin SOT-23 (DBV), -40 to 125 degC, Green (RoHS & no Sb/Br); Manufacturer: Texas Instruments; PartNumber: TPS72116DBVR; Accuracy(%): 3; Fixed Output Options(V): 1.6; Iout(Max)(A): 0.1; Iq(Typ)(mA): 0.57; SubFamily: Single Channel LDO; Vdo(Typ)(mV): 150; Vin(Max)(V): 5.5; Vin(Min)(V): 1.8; DatasheetVersion: SLVS352C; PackageVersion: 4073253-4/K; PackageReference: DBV5; PackageDescription: 5-Pin Plastic Small Outline, Body 1.60 × 2.90 mm, Pitch 0.95 mm; Supplier 1: Digi-Key; Supplier Part Number 1: TPS72116DBVR-ND; Supplier 2: Newark; Supplier Part Number 2: 77C0822; Supplier 3: Mouser; Supplier Part Number 3: 595-TPS72116DBVR; Eco-Plan: Green (RoHS & no Sb/Br); Vout Adj(Max)(V): 1.6; Vout Adj(Min)(V): 1.6; Mounting Technology: Surface Mount; Code_JEDEC: MO-178; ComponentLink1Description: Manufacturer URL; ComponentLink1URL: http://www.ti.com/; ComponentLink2Description: Datasheet; ComponentLink2URL: http://www.ti.com/general/docs/lit/getliterature.tsp?genericPartNumber=TPS72116&fileType=pdf; ComponentLink3Description: Package Specification; ComponentLink3URL: http://www.ti.com/litv/pdf/mpds018i
footprint TI-DBV5_N (SOT23, 5-Leads, Body 2.9x1.6mm, Pitch 0.95mm, IPC Medium Density)
footprint TI-DBV5_L (SOT23, 5-Leads, Body 2.9x1.6mm, Pitch 0.95mm, IPC High Density)
footprint TI-DBV5_M (SOT23, 5-Leads, Body 2.9x1.6mm, Pitch 0.95mm, IPC Low Density)
pins: 1 IN (power) "Input supply voltage", 2 GND (power) "Ground", 3 EN (in) "Enable input", 4 NC "No connected", 5 OUT (power) "Regulated output voltage"

## TPS72116DBVRG4
designator U?
Single Output Low Input Voltage Requirement LDO, 150 mA, Fixed 1.6 V Output, 1.8 to 5.5 V Input, with Low IQ, 5-pin SOT-23 (DBV), -40 to 125 degC, Green (RoHS & no Sb/Br); Manufacturer: Texas Instruments; PartNumber: TPS72116DBVRG4; Accuracy(%): 3; Fixed Output Options(V): 1.6; Iout(Max)(A): 0.1; Iq(Typ)(mA): 0.57; SubFamily: Single Channel LDO; Vdo(Typ)(mV): 150; Vin(Max)(V): 5.5; Vin(Min)(V): 1.8; DatasheetVersion: SLVS352C; PackageVersion: 4073253-4/K; PackageReference: DBV5; PackageDescription: 5-Pin Plastic Small Outline, Body 1.60 × 2.90 mm, Pitch 0.95 mm; Supplier 1: Digi-Key; Supplier Part Number 1: TPS72116DBVRG4-ND; Supplier 2: Mouser; Supplier Part Number 2: 595-TPS72116DBVRG4; Eco-Plan: Green (RoHS & no Sb/Br); Vout Adj(Max)(V): 1.6; Vout Adj(Min)(V): 1.6; Mounting Technology: Surface Mount; Code_JEDEC: MO-178; ComponentLink1Description: Manufacturer URL; ComponentLink1URL: http://www.ti.com/; ComponentLink2Description: Datasheet; ComponentLink2URL: http://www.ti.com/general/docs/lit/getliterature.tsp?genericPartNumber=TPS72116&fileType=pdf; ComponentLink3Description: Package Specification; ComponentLink3URL: http://www.ti.com/litv/pdf/mpds018i
footprint TI-DBV5_N (SOT23, 5-Leads, Body 2.9x1.6mm, Pitch 0.95mm, IPC Medium Density)
footprint TI-DBV5_L (SOT23, 5-Leads, Body 2.9x1.6mm, Pitch 0.95mm, IPC High Density)
footprint TI-DBV5_M (SOT23, 5-Leads, Body 2.9x1.6mm, Pitch 0.95mm, IPC Low Density)
pins: 1 IN (power) "Input supply voltage", 2 GND (power) "Ground", 3 EN (in) "Enable input", 4 NC "No connected", 5 OUT (power) "Regulated output voltage"

## TPS72116DBVT
designator U?
Single Output Low Input Voltage Requirement LDO, 150 mA, Fixed 1.6 V Output, 1.8 to 5.5 V Input, with Low IQ, 5-pin SOT-23 (DBV), -40 to 125 degC, Green (RoHS & no Sb/Br); Manufacturer: Texas Instruments; PartNumber: TPS72116DBVT; Accuracy(%): 3; Fixed Output Options(V): 1.6; Iout(Max)(A): 0.1; Iq(Typ)(mA): 0.57; SubFamily: Single Channel LDO; Vdo(Typ)(mV): 150; Vin(Max)(V): 5.5; Vin(Min)(V): 1.8; DatasheetVersion: SLVS352C; PackageVersion: 4073253-4/K; PackageReference: DBV5; PackageDescription: 5-Pin Plastic Small Outline, Body 1.60 × 2.90 mm, Pitch 0.95 mm; Supplier 1: Digi-Key; Supplier Part Number 1: 296-12519-2-ND; Supplier 2: Digi-Key; Supplier Part Number 2: 296-12519-1-ND; Supplier 3: Digi-Key; Supplier Part Number 3: 296-12519-6-ND; Supplier 4: Newark; Supplier Part Number 4: 77C0823; Supplier 5: Mouser; Supplier Part Number 5: 595-TPS72116DBVT; Eco-Plan: Green (RoHS & no Sb/Br); Vout Adj(Max)(V): 1.6; Vout Adj(Min)(V): 1.6; Mounting Technology: Surface Mount; Code_JEDEC: MO-178; ComponentLink1Description: Manufacturer URL; ComponentLink1URL: http://www.ti.com/; ComponentLink2Description: Datasheet; ComponentLink2URL: http://www.ti.com/general/docs/lit/getliterature.tsp?genericPartNumber=TPS72116&fileType=pdf; ComponentLink3Description: Package Specification; ComponentLink3URL: http://www.ti.com/litv/pdf/mpds018i
footprint TI-DBV5_N (SOT23, 5-Leads, Body 2.9x1.6mm, Pitch 0.95mm, IPC Medium Density)
footprint TI-DBV5_L (SOT23, 5-Leads, Body 2.9x1.6mm, Pitch 0.95mm, IPC High Density)
footprint TI-DBV5_M (SOT23, 5-Leads, Body 2.9x1.6mm, Pitch 0.95mm, IPC Low Density)
pins: 1 IN (power) "Input supply voltage", 2 GND (power) "Ground", 3 EN (in) "Enable input", 4 NC "No connected", 5 OUT (power) "Regulated output voltage"

## TPS72116DBVTG4
designator U?
Single Output Low Input Voltage Requirement LDO, 150 mA, Fixed 1.6 V Output, 1.8 to 5.5 V Input, with Low IQ, 5-pin SOT-23 (DBV), -40 to 125 degC, Green (RoHS & no Sb/Br); Manufacturer: Texas Instruments; PartNumber: TPS72116DBVTG4; Accuracy(%): 3; Fixed Output Options(V): 1.6; Iout(Max)(A): 0.1; Iq(Typ)(mA): 0.57; SubFamily: Single Channel LDO; Vdo(Typ)(mV): 150; Vin(Max)(V): 5.5; Vin(Min)(V): 1.8; DatasheetVersion: SLVS352C; PackageVersion: 4073253-4/K; PackageReference: DBV5; PackageDescription: 5-Pin Plastic Small Outline, Body 1.60 × 2.90 mm, Pitch 0.95 mm; Supplier 1: Digi-Key; Supplier Part Number 1: TPS72116DBVTG4-ND; Supplier 2: Mouser; Supplier Part Number 2: 595-TPS72116DBVTG4; Eco-Plan: Green (RoHS & no Sb/Br); Vout Adj(Max)(V): 1.6; Vout Adj(Min)(V): 1.6; Mounting Technology: Surface Mount; Code_JEDEC: MO-178; ComponentLink1Description: Manufacturer URL; ComponentLink1URL: http://www.ti.com/; ComponentLink2Description: Datasheet; ComponentLink2URL: http://www.ti.com/general/docs/lit/getliterature.tsp?genericPartNumber=TPS72116&fileType=pdf; ComponentLink3Description: Package Specification; ComponentLink3URL: http://www.ti.com/litv/pdf/mpds018i
footprint TI-DBV5_N (SOT23, 5-Leads, Body 2.9x1.6mm, Pitch 0.95mm, IPC Medium Density)
footprint TI-DBV5_L (SOT23, 5-Leads, Body 2.9x1.6mm, Pitch 0.95mm, IPC High Density)
footprint TI-DBV5_M (SOT23, 5-Leads, Body 2.9x1.6mm, Pitch 0.95mm, IPC Low Density)
pins: 1 IN (power) "Input supply voltage", 2 GND (power) "Ground", 3 EN (in) "Enable input", 4 NC "No connected", 5 OUT (power) "Regulated output voltage"

## TPS72118DBVR
designator U?
Single Output Low Input Voltage Requirement LDO, 150 mA, Fixed 1.8 V Output, 1.8 to 5.5 V Input, with Low IQ, 5-pin SOT-23 (DBV), -40 to 125 degC, Green (RoHS & no Sb/Br); Manufacturer: Texas Instruments; PartNumber: TPS72118DBVR; Accuracy(%): 3; Fixed Output Options(V): 1.8; Iout(Max)(A): 0.1; Iq(Typ)(mA): 0.57; SubFamily: Single Channel LDO; Vdo(Typ)(mV): 150; Vin(Max)(V): 5.5; DatasheetVersion: SLVS352C; PackageVersion: 4073253-4/K; PackageReference: DBV5; PackageDescription: 5-Pin Plastic Small Outline, Body 1.60 × 2.90 mm, Pitch 0.95 mm; Supplier 1: Digi-Key; Supplier Part Number 1: TPS72118DBVR-ND; Supplier 2: Newark; Supplier Part Number 2: 83C7646; Supplier 3: Mouser; Supplier Part Number 3: 595-TPS72118DBVR; Eco-Plan: Green (RoHS & no Sb/Br); Vin(Min)(V): 1.8; Vout Adj(Max)(V): 1.8; Vout Adj(Min)(V): 1.8; Mounting Technology: Surface Mount; Code_JEDEC: MO-178; ComponentLink1Description: Manufacturer URL; ComponentLink1URL: http://www.ti.com/; ComponentLink2Description: Datasheet; ComponentLink2URL: http://www.ti.com/general/docs/lit/getliterature.tsp?genericPartNumber=TPS72118&fileType=pdf; ComponentLink3Description: Package Specification; ComponentLink3URL: http://www.ti.com/litv/pdf/mpds018i
footprint TI-DBV5_N (SOT23, 5-Leads, Body 2.9x1.6mm, Pitch 0.95mm, IPC Medium Density)
footprint TI-DBV5_L (SOT23, 5-Leads, Body 2.9x1.6mm, Pitch 0.95mm, IPC High Density)
footprint TI-DBV5_M (SOT23, 5-Leads, Body 2.9x1.6mm, Pitch 0.95mm, IPC Low Density)
pins: 1 IN (power) "Input supply voltage", 2 GND (power) "Ground", 3 EN (in) "Enable input", 4 NC "No connected", 5 OUT (power) "Regulated output voltage"

## TPS72118DBVRG4
designator U?
Single Output Low Input Voltage Requirement LDO, 150 mA, Fixed 1.8 V Output, 1.8 to 5.5 V Input, with Low IQ, 5-pin SOT-23 (DBV), -40 to 125 degC, Green (RoHS & no Sb/Br); Manufacturer: Texas Instruments; PartNumber: TPS72118DBVRG4; Accuracy(%): 3; Fixed Output Options(V): 1.8; Iout(Max)(A): 0.1; Iq(Typ)(mA): 0.57; SubFamily: Single Channel LDO; Vdo(Typ)(mV): 150; Vin(Max)(V): 5.5; DatasheetVersion: SLVS352C; PackageVersion: 4073253-4/K; PackageReference: DBV5; PackageDescription: 5-Pin Plastic Small Outline, Body 1.60 × 2.90 mm, Pitch 0.95 mm; Supplier 1: Digi-Key; Supplier Part Number 1: TPS72118DBVRG4-ND; Supplier 2: Mouser; Supplier Part Number 2: 595-TPS72118DBVRG4; Eco-Plan: Green (RoHS & no Sb/Br); Vin(Min)(V): 1.8; Vout Adj(Max)(V): 1.8; Vout Adj(Min)(V): 1.8; Mounting Technology: Surface Mount; Code_JEDEC: MO-178; ComponentLink1Description: Manufacturer URL; ComponentLink1URL: http://www.ti.com/; ComponentLink2Description: Datasheet; ComponentLink2URL: http://www.ti.com/general/docs/lit/getliterature.tsp?genericPartNumber=TPS72118&fileType=pdf; ComponentLink3Description: Package Specification; ComponentLink3URL: http://www.ti.com/litv/pdf/mpds018i
footprint TI-DBV5_N (SOT23, 5-Leads, Body 2.9x1.6mm, Pitch 0.95mm, IPC Medium Density)
footprint TI-DBV5_L (SOT23, 5-Leads, Body 2.9x1.6mm, Pitch 0.95mm, IPC High Density)
footprint TI-DBV5_M (SOT23, 5-Leads, Body 2.9x1.6mm, Pitch 0.95mm, IPC Low Density)
pins: 1 IN (power) "Input supply voltage", 2 GND (power) "Ground", 3 EN (in) "Enable input", 4 NC "No connected", 5 OUT (power) "Regulated output voltage"

## TPS72118DBVT
designator U?
Single Output Low Input Voltage Requirement LDO, 150 mA, Fixed 1.8 V Output, 1.8 to 5.5 V Input, with Low IQ, 5-pin SOT-23 (DBV), -40 to 125 degC, Green (RoHS & no Sb/Br); Manufacturer: Texas Instruments; PartNumber: TPS72118DBVT; Accuracy(%): 3; Fixed Output Options(V): 1.8; Iout(Max)(A): 0.1; Iq(Typ)(mA): 0.57; SubFamily: Single Channel LDO; Vdo(Typ)(mV): 150; Vin(Max)(V): 5.5; DatasheetVersion: SLVS352C; PackageVersion: 4073253-4/K; PackageReference: DBV5; PackageDescription: 5-Pin Plastic Small Outline, Body 1.60 × 2.90 mm, Pitch 0.95 mm; Supplier 1: Digi-Key; Supplier Part Number 1: 296-12520-2-ND; Supplier 2: Digi-Key; Supplier Part Number 2: 296-12520-1-ND; Supplier 3: Digi-Key; Supplier Part Number 3: 296-12520-6-ND; Supplier 4: Farnell; Supplier Part Number 4: 2128816; Supplier 5: Newark; Supplier Part Number 5: 83C7647; Supplier 6: Mouser; Supplier Part Number 6: 595-TPS72118DBVT; Eco-Plan: Green (RoHS & no Sb/Br); Vin(Min)(V): 1.8; Vout Adj(Max)(V): 1.8; Vout Adj(Min)(V): 1.8; Mounting Technology: Surface Mount; Code_JEDEC: MO-178; ComponentLink1Description: Manufacturer URL; ComponentLink1URL: http://www.ti.com/; ComponentLink2Description: Datasheet; ComponentLink2URL: http://www.ti.com/general/docs/lit/getliterature.tsp?genericPartNumber=TPS72118&fileType=pdf; ComponentLink3Description: Package Specification; ComponentLink3URL: http://www.ti.com/litv/pdf/mpds018i
footprint TI-DBV5_N (SOT23, 5-Leads, Body 2.9x1.6mm, Pitch 0.95mm, IPC Medium Density)
footprint TI-DBV5_L (SOT23, 5-Leads, Body 2.9x1.6mm, Pitch 0.95mm, IPC High Density)
footprint TI-DBV5_M (SOT23, 5-Leads, Body 2.9x1.6mm, Pitch 0.95mm, IPC Low Density)
pins: 1 IN (power) "Input supply voltage", 2 GND (power) "Ground", 3 EN (in) "Enable input", 4 NC "No connected", 5 OUT (power) "Regulated output voltage"

## TPS72118DBVTG4
designator U?
Single Output Low Input Voltage Requirement LDO, 150 mA, Fixed 1.8 V Output, 1.8 to 5.5 V Input, with Low IQ, 5-pin SOT-23 (DBV), -40 to 125 degC, Green (RoHS & no Sb/Br); Manufacturer: Texas Instruments; PartNumber: TPS72118DBVTG4; Accuracy(%): 3; Fixed Output Options(V): 1.8; Iout(Max)(A): 0.1; Iq(Typ)(mA): 0.57; SubFamily: Single Channel LDO; Vdo(Typ)(mV): 150; Vin(Max)(V): 5.5; DatasheetVersion: SLVS352C; PackageVersion: 4073253-4/K; PackageReference: DBV5; PackageDescription: 5-Pin Plastic Small Outline, Body 1.60 × 2.90 mm, Pitch 0.95 mm; Supplier 1: Digi-Key; Supplier Part Number 1: TPS72118DBVTG4-ND; Supplier 2: Newark; Supplier Part Number 2: 33K7686; Supplier 3: Mouser; Supplier Part Number 3: 595-TPS72118DBVTG4; Eco-Plan: Green (RoHS & no Sb/Br); Vin(Min)(V): 1.8; Vout Adj(Max)(V): 1.8; Vout Adj(Min)(V): 1.8; Mounting Technology: Surface Mount; Code_JEDEC: MO-178; ComponentLink1Description: Manufacturer URL; ComponentLink1URL: http://www.ti.com/; ComponentLink2Description: Datasheet; ComponentLink2URL: http://www.ti.com/general/docs/lit/getliterature.tsp?genericPartNumber=TPS72118&fileType=pdf; ComponentLink3Description: Package Specification; ComponentLink3URL: http://www.ti.com/litv/pdf/mpds018i
footprint TI-DBV5_N (SOT23, 5-Leads, Body 2.9x1.6mm, Pitch 0.95mm, IPC Medium Density)
footprint TI-DBV5_L (SOT23, 5-Leads, Body 2.9x1.6mm, Pitch 0.95mm, IPC High Density)
footprint TI-DBV5_M (SOT23, 5-Leads, Body 2.9x1.6mm, Pitch 0.95mm, IPC Low Density)
pins: 1 IN (power) "Input supply voltage", 2 GND (power) "Ground", 3 EN (in) "Enable input", 4 NC "No connected", 5 OUT (power) "Regulated output voltage"